# Altium footprint library Coil MPS.PcbLib: 18 footprints (part 2 of 2)
Each footprint in its own frame and in the unit in brackets; x right, y up, seen from the top. Pads: shape width x height; smd on the part's side, far side on the other; paste and mask are expansions set on the pad; w line width, h text height; cw(c..) or ccw(c..) is an arc to the next point about the centre after c.
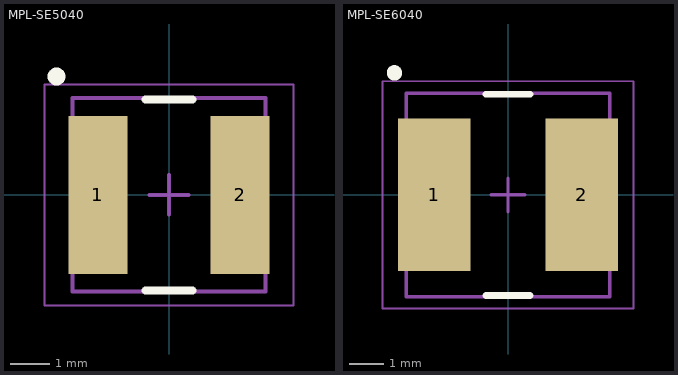
[diagram p1: the footprints below, top view; thin cyan lines are the x and y axes]

## MPL-SE5040 [mm] "Chip Inductor, 2-Leads, Body 4.90x4.90mm, IPC Medium Density"
height 4
pads (2):
  rect 1.5x4 smd: 1(-1.8,0) 2(1.8,0)
Top Overlay:
  circle w0.254: c-2.85,3 r0.1
  lines w0.2: -0.6,-2.42 0.6,-2.42 ; -0.6,2.42 0.6,2.42
Mechanical 13:
  lines w0.1: -2.45,-2.45 -2.45,2.45 2.45,2.45 2.45,-2.45 -2.45,-2.45
Mechanical 15:
  lines w0.05: -3.15,-2.8 -3.15,2.8 3.15,2.8 3.15,-2.8 -3.15,-2.8
  lines w0.1: -0.5,0 0.5,0 ; 0,-0.5 0,0.5
3D body: height 2, standoff 0, extent -1.05,-2.45 1.05,2.45
3D body: height 2, standoff 0, extent -2.45,-2.45 -1.05,2.45
3D body: height 2, standoff 0, extent 1.05,-2.45 2.45,2.45

## MPL-SE6040 [mm] "Chip Inductor, 2-Leads, Body 6.00x6.00mm, IPC Medium Density"
height 4
pads (2):
  rect 2.15x4.5 smd: 1(-2.175,0) 2(2.175,0)
Top Overlay:
  circle w0.254: c-3.35,3.6 r0.1
  lines w0.2: -0.65,-2.97 0.65,-2.97 ; -0.65,2.97 0.65,2.97
Mechanical 13:
  lines w0.1: -3,-3 3,-3 3,3 -3,3 -3,-3
Mechanical 15:
  lines w0.05: -3.7,-3.35 3.7,-3.35 3.7,3.35 -3.7,3.35 -3.7,-3.35
  lines w0.1: -0.5,0 0.5,0 ; 0,-0.5 0,0.5
3D body: height 4, standoff 0, extent 1.1,-3 3,3
3D body: height 4, standoff 0, extent -3,-3 -1.1,3
3D body: height 4, standoff 0, extent -1.1,-3 1.1,3